# EAGLE library part STM32L011G4 (library habexpico8)
STM32L0 Series
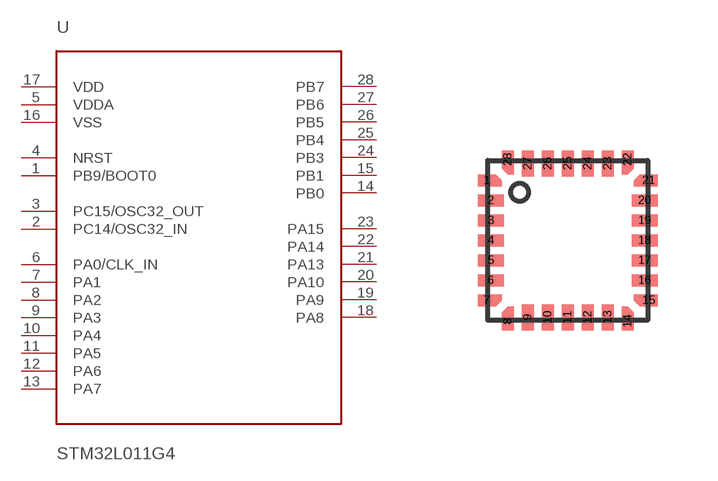
[diagram p1: symbol with the pads of UFQFPN28; footprint UFQFPN28]

Designator prefix U

## STM32L011G4  [UFQFPN28]
1  PB9/BOOT0
2  PC14/OSC32_IN
3  PC15/OSC32_OUT
4  NRST
5  VDDA
6  PA0/CLK_IN
7  PA1
8  PA2
9  PA3
10  PA4
11  PA5
12  PA6
13  PA7
14  PB0
15  PB1
16  VSS
17  VDD
18  PA8
19  PA9
20  PA10
21  PA13
22  PA14
23  PA15
24  PB3
25  PB4
26  PB5
27  PB6
28  PB7

## Footprint UFQFPN28 (pad centres in mm)
smd 0.4 x 0.3: 1 -2.025,1.5; 7 -2.025,-1.5; 15 2.025,-1.5; 21 2.025,1.5
smd 0.65 x 0.3: 2 -1.925,1; 3 -1.925,0.5; 4 -1.925,0; 5 -1.925,-0.5; 6 -1.925,-1; 16 1.925,-1; 17 1.925,-0.5; 18 1.925,0; 19 1.925,0.5; 20 1.925,1
smd 0.3 x 0.4: 8 -1.5,-2.025; 14 1.5,-2.025; 22 1.5,2.025; 28 -1.5,2.025
smd 0.3 x 0.65: 9 -1,-1.925; 10 -0.5,-1.925; 11 0,-1.925; 12 0.5,-1.925; 13 1,-1.925; 23 1,1.925; 24 0.5,1.925; 25 0,1.925; 26 -0.5,1.925; 27 -1,1.925